# Altium integrated library BM02B-SRSS-TB_LF__SN_.IntLib: 2 symbols
Pins are listed as number, name and electrical type; pins without a type are passive.

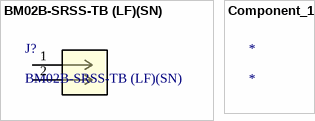
[diagram p0: symbols BM02B-SRSS-TB (LF)(SN) to Component_1]

## BM02B-SRSS-TB (LF)(SN)
designator J?
No Description Available; Mfr_Name: JST; Copyright: Copyright (C) 2021 Ultra Librarian. All rights reserved.; Manufacturer_Part_Number: BM02B-SRSS-TB (LF)(SN); RefDes: RefDes; Type: DEV
footprint CONN_BM02B-SRSS-TB_JST
pins: 1, 2

## Component_1
designator *